# Altium footprint library MUX.PcbLib: 1 footprints
Each footprint in its own frame and in the unit in brackets; x right, y up, seen from the top. Pads: shape width x height; smd on the part's side, far side on the other; paste and mask are expansions set on the pad; w line width, h text height; cw(c..) or ccw(c..) is an arc to the next point about the centre after c.
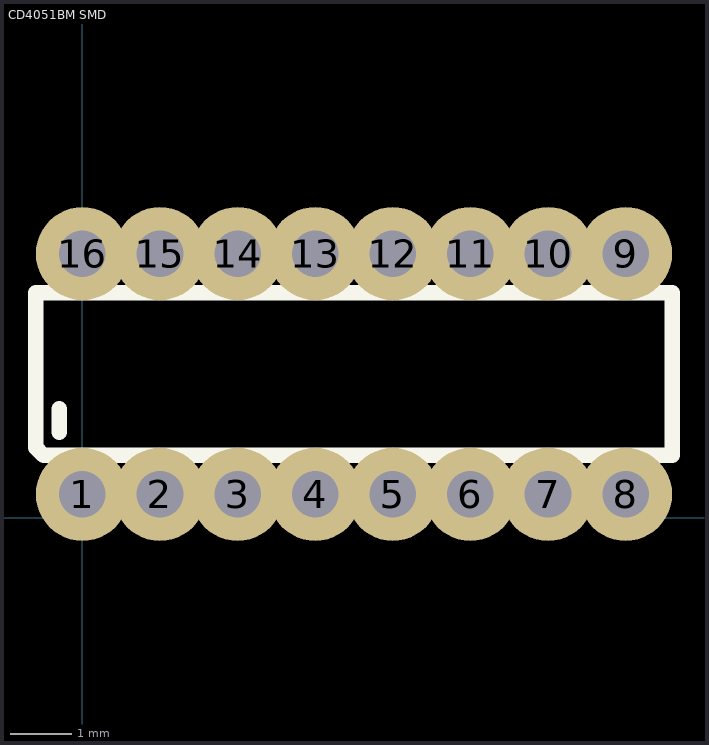
[diagram p0: the footprint, top view; thin cyan lines are the x and y axes]

## CD4051BM SMD [mil] "8:1 MUX"
pads (16):
  round 60 hole 30: 1(0,15) 2(50,15) 3(100,15) 4(150,15) 5(200,15) 6(250,15) 7(300,15) 8(350,15) 9(350,170) 10(300,170) 11(250,170) 12(200,170) 13(150,170) 14(100,170) 15(50,170) 16(0,170)
Top Overlay:
  lines w10: -15,55 -15,70 ; -30,45 -25,40 380,40 380,145 -30,145 -30,45